# Altium schematic symbol library CC1200RHBR.SchLib: 1 symbol
Pins are listed as number, name and electrical type; pins without a type are passive.

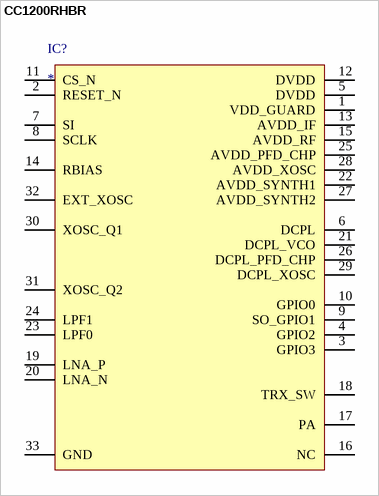
[diagram p0: symbol CC1200RHBR]

## CC1200RHBR
designator IC?
Low power and high performance wireless transceiver 32-VQFN -40 to 85; Manufacturer_Name: Texas Instruments; Manufacturer_Part_Number: CC1200RHBR; Alternate_PartNumber: CC1200RHBT; CompType: IC; TYPE: TYPE; RefDes: RefDes; Copyright: Copyright (C) 2026 Ultra Librarian. All rights reserved.; Datasheet: https://www.ti.com/lit/gpn/cc1200; Application_BuildNumber: *; PartNumber: CC1200RHBR; PackageReference: RHB0032E; MountType: SMT; RoHS: Y; Manufacturer: Texas Instruments
footprint RHB0032E
pins: 1 VDD_GUARD (power), 2 RESET_N, 3 GPIO3, 4 GPIO2, 5 DVDD (power), 6 DCPL (power), 7 SI, 8 SCLK, 9 SO_GPIO1, 10 GPIO0, 11 CS_N, 12 DVDD (power), 13 AVDD_IF (power), 14 RBIAS, 15 AVDD_RF (power), 16 NC, 17 PA, 18 TRX_SW, 19 LNA_P, 20 LNA_N, 21 DCPL_VCO (power), 22 AVDD_SYNTH1 (power), 23 LPF0, 24 LPF1, 25 AVDD_PFD_CHP (power), 26 DCPL_PFD_CHP (power), 27 AVDD_SYNTH2 (power), 28 AVDD_XOSC (power), 29 DCPL_XOSC (power), 30 XOSC_Q1, 31 XOSC_Q2, 32 EXT_XOSC, 33 GND (power)